# EAGLE library part 74*245 (library F030NG)
Octal BUS TRANSCEIVER, 3-state
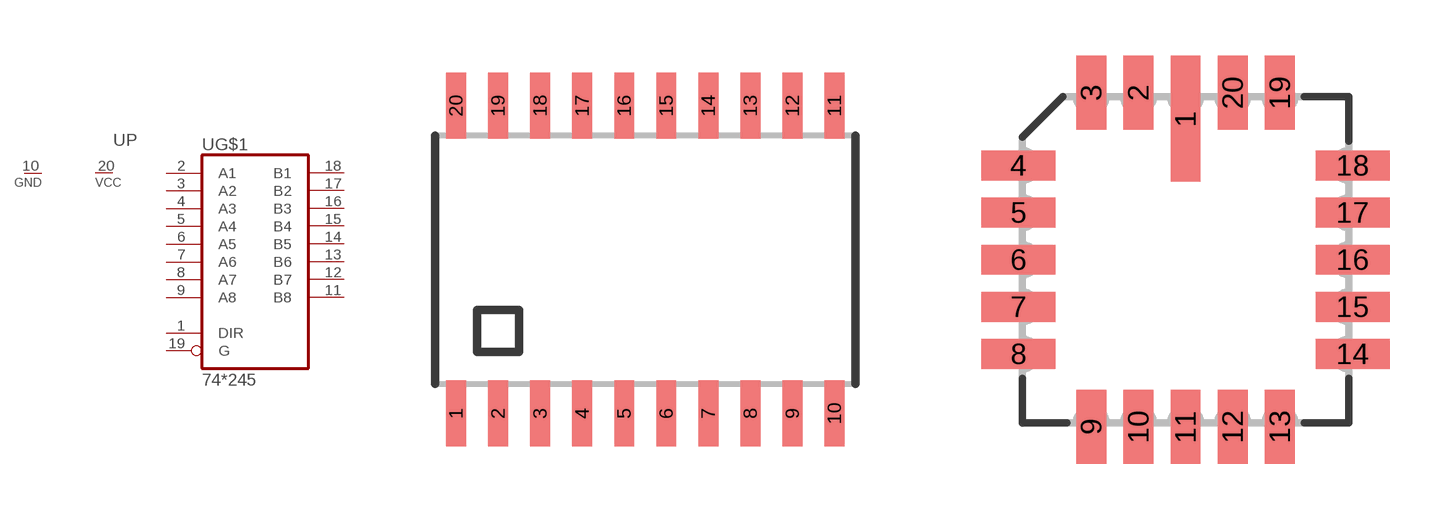
[diagram p56: symbol with the pads of SOIC20; footprints SOIC20, LCC20]

Designator prefix U; gates G$1=74245 P=1VCC_1GND

## 74AC245D(W), 74ACT245D(W), 74HC245D(W), 74HCT245D(W), 74LS245D(W)  [SOIC20]
1  G$1:DIR  in
2  G$1:A1
3  G$1:A2
4  G$1:A3
5  G$1:A4
6  G$1:A5
7  G$1:A6
8  G$1:A7
9  G$1:A8
10  P:GND  pwr
11  G$1:B8
12  G$1:B7
13  G$1:B6
14  G$1:B5
15  G$1:B4
16  G$1:B3
17  G$1:B2
18  G$1:B1
19  G$1:G  in
20  P:VCC  pwr

## 74AC245FK, 74ACT245FK, 74HC245FK, 74HCT245FK, 74LS245FK  [LCC20]
Pads as for SOIC20

## 74245PWR  [TSSOP20]
Pads as for SOIC20

## 74245D, 74ACT245D, 74HC245D, 74HCT245D, 74LS245D  [SO20]
Pads as for SOIC20

## Footprint SOIC20 (pad centres in mm)
SMALL OUTLINE INTEGRATED CIRCUIT 7,6 mm wide body
smd 0.6 x 2: 1 -5.715,-4.65; 2 -4.445,-4.65; 3 -3.175,-4.65; 4 -1.905,-4.65; 5 -0.635,-4.65; 6 0.635,-4.65; 7 1.905,-4.65; 8 3.175,-4.65; 9 4.445,-4.65; 10 5.715,-4.65; 11 5.715,4.65; 12 4.445,4.65; 13 3.175,4.65; 14 1.905,4.65; 15 0.635,4.65; 16 -0.635,4.65; 17 -1.905,4.65; 18 -3.175,4.65; 19 -4.445,4.65; 20 -5.715,4.65

## Footprint LCC20 (pad centres in mm)
Leadless Chip Carrier Ceramic Package
smd 0.8 x 3.4: 1 0,3.8
smd 0.8 x 2: 2 -1.27,4.5; 3 -2.54,4.5; 9 -2.54,-4.5; 10 -1.27,-4.5; 11 0,-4.5; 12 1.27,-4.5; 13 2.54,-4.5; 19 2.54,4.5; 20 1.27,4.5
smd 2 x 0.8: 4 -4.5,2.54; 5 -4.5,1.27; 6 -4.5,0; 7 -4.5,-1.27; 8 -4.5,-2.54; 14 4.5,-2.54; 15 4.5,-1.27; 16 4.5,0; 17 4.5,1.27; 18 4.5,2.54

## Footprint TSSOP20 (pad centres in mm)
Shrink Small Outline Plastic 16
smd 0.305 x 0.991: 1 -2.925,-2.918; 2 -2.275,-2.918; 3 -1.625,-2.918; 4 -0.975,-2.918; 5 -0.325,-2.918; 6 0.325,-2.918; 7 0.975,-2.918; 8 1.625,-2.918; 9 2.275,-2.918; 10 2.925,-2.918; 11 2.925,2.918; 12 2.275,2.918; 13 1.625,2.918; 14 0.975,2.918; 15 0.325,2.918; 16 -0.325,2.918; 17 -0.975,2.918; 18 -1.625,2.918; 19 -2.275,2.918; 20 -2.925,2.918

## Footprint SO20 (pad centres in mm)
SMALL OUTLINE INTEGRATED CIRCUIT body 5.3 mm/JEDEC MS-012AA
smd 0.6 x 2.2: 1 -5.715,-3.35; 2 -4.445,-3.35; 3 -3.175,-3.35; 4 -1.905,-3.35; 5 -0.635,-3.35; 6 0.635,-3.35; 7 1.905,-3.35; 8 3.175,-3.35; 9 4.445,-3.35; 10 5.715,-3.35; 11 5.715,3.35; 12 4.445,3.35; 13 3.175,3.35; 14 1.905,3.35; 15 0.635,3.35; 16 -0.635,3.35; 17 -1.905,3.35; 18 -3.175,3.35; 19 -4.445,3.35; 20 -5.715,3.35